# EAGLE library part INF-PG-DSO-8-24_L_INF-PG-DSO-8-24_L_1 (library masterboard_b12)
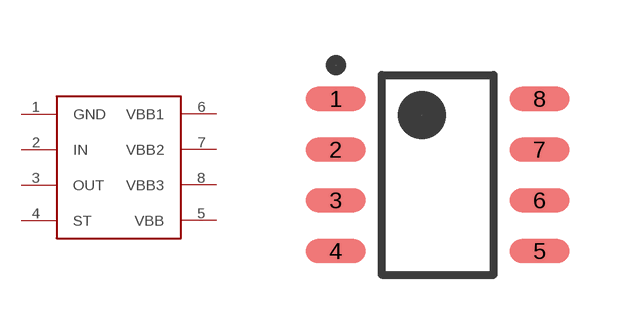
[diagram p0: symbol with the pads of INF-PG-DSO-8-24_L_INF-PG-DSO-8-24_L_1PRIMARY; footprint INF-PG-DSO-8-24_L_INF-PG-DSO-8-24_L_1PRIMARY]

Designator prefix -

## INF-PG-DSO-8-24_L_INF-PG-DSO-8-24_L_1  [INF-PG-DSO-8-24_L_INF-PG-DSO-8-24_L_1PRIMARY]
1  GND
2  IN
3  OUT
4  ST
5  VBB
6  VBB1
7  VBB2
8  VBB3

## Footprint INF-PG-DSO-8-24_L_INF-PG-DSO-8-24_L_1PRIMARY (pad centres in mm)
Original name INF-PG-DSO-8-24_L
smd 1.5 x 0.6: 1 -2.55,1.905; 2 -2.55,0.635; 3 -2.55,-0.635; 4 -2.55,-1.905; 5 2.55,-1.905; 6 2.55,-0.635; 7 2.55,0.635; 8 2.55,1.905